# EAGLE library part TPS630701RNMT (library TPS630701)
TPS630701
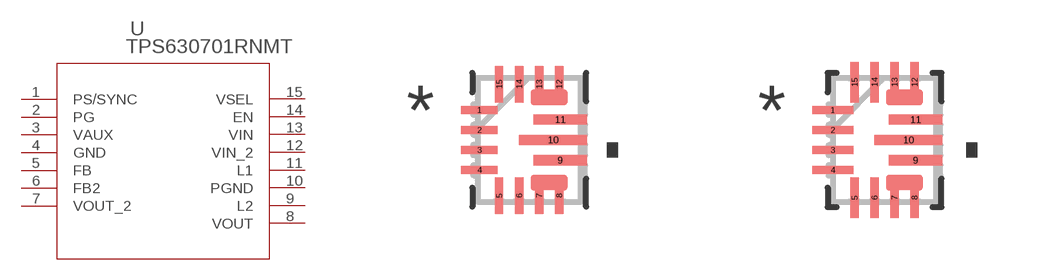
[diagram p0: symbol with the pads of RNM15_TEX; footprints RNM15_TEX, RNM15_TEX-M]

Designator prefix U

## TPS630701RNMT (BUILT_BY: EMA_Molly; COPYRIGHT: Copyright (C) 2018 Accelerated Designs. All rights reserved; MANUFACTURER_PART_NUMBER: TPS630701RNMT; SOURCELIBRARY: TI_2019-05-24; VENDOR: Texas Instruments)  [RNM15_TEX]
1  PS/SYNC  in
2  PG  out
3  VAUX  out
4  GND  pwr
5  FB  in
6  FB2  out
7  VOUT_2  out
8  VOUT  out
9  L2  in
10  PGND  pwr
11  L1  in
12  VIN_2  in
13  VIN  in
14  EN  in
15  VSEL  in

## TPS630701RNMTRNM15_TEX-M (BUILT_BY: EMA_Molly; COPYRIGHT: Copyright (C) 2018 Accelerated Designs. All rights reserved; MANUFACTURER_PART_NUMBER: TPS630701RNMT; SOURCELIBRARY: TI_2019-05-24; VENDOR: Texas Instruments)  [RNM15_TEX-M]
Pads as for RNM15_TEX

## TPS630701RNMTRNM15_TEX-L (BUILT_BY: EMA_Molly; COPYRIGHT: Copyright (C) 2018 Accelerated Designs. All rights reserved; MANUFACTURER_PART_NUMBER: TPS630701RNMT; SOURCELIBRARY: TI_2019-05-24; VENDOR: Texas Instruments)  [RNM15_TEX-L]
Pads as for RNM15_TEX

## Footprint RNM15_TEX (pad centres in mm)
smd 0.914 x 0.203: 1 -1.245,0.75; 2 -1.245,0.25; 3 -1.245,-0.25; 4 -1.245,-0.75
smd 0.203 x 0.914: 5 -0.75,-1.397; 6 -0.25,-1.397; 7 0.25,-1.397; 8 0.75,-1.397; 12 0.75,1.397; 13 0.25,1.397; 14 -0.25,1.397; 15 -0.75,1.397
smd 1.346 x 0.254: 9 0.775,-0.508; 11 0.775,0.508
smd 1.702 x 0.254: 10 0.597,0

## Footprint RNM15_TEX-M (pad centres in mm)
smd 1.016 x 0.203: 1 -1.295,0.75; 2 -1.295,0.25; 3 -1.295,-0.25; 4 -1.295,-0.75
smd 0.203 x 1.016: 5 -0.75,-1.448; 6 -0.25,-1.448; 7 0.25,-1.448; 8 0.75,-1.448; 12 0.75,1.448; 13 0.25,1.448; 14 -0.25,1.448; 15 -0.75,1.448
smd 1.346 x 0.254: 9 0.775,-0.508; 11 0.775,0.508
smd 1.702 x 0.254: 10 0.597,0

## Footprint RNM15_TEX-L (pad centres in mm)
smd 0.813 x 0.203: 1 -1.194,0.75; 2 -1.194,0.25; 3 -1.194,-0.25; 4 -1.194,-0.75
smd 0.203 x 0.813: 5 -0.75,-1.346; 6 -0.25,-1.346; 7 0.25,-1.346; 8 0.75,-1.346; 12 0.75,1.346; 13 0.25,1.346; 14 -0.25,1.346; 15 -0.75,1.346
smd 1.346 x 0.254: 9 0.775,-0.508; 11 0.775,0.508
smd 1.702 x 0.254: 10 0.597,0